# EAGLE library part J-20- (library con-headers-jp)
HEADER JACK PINS
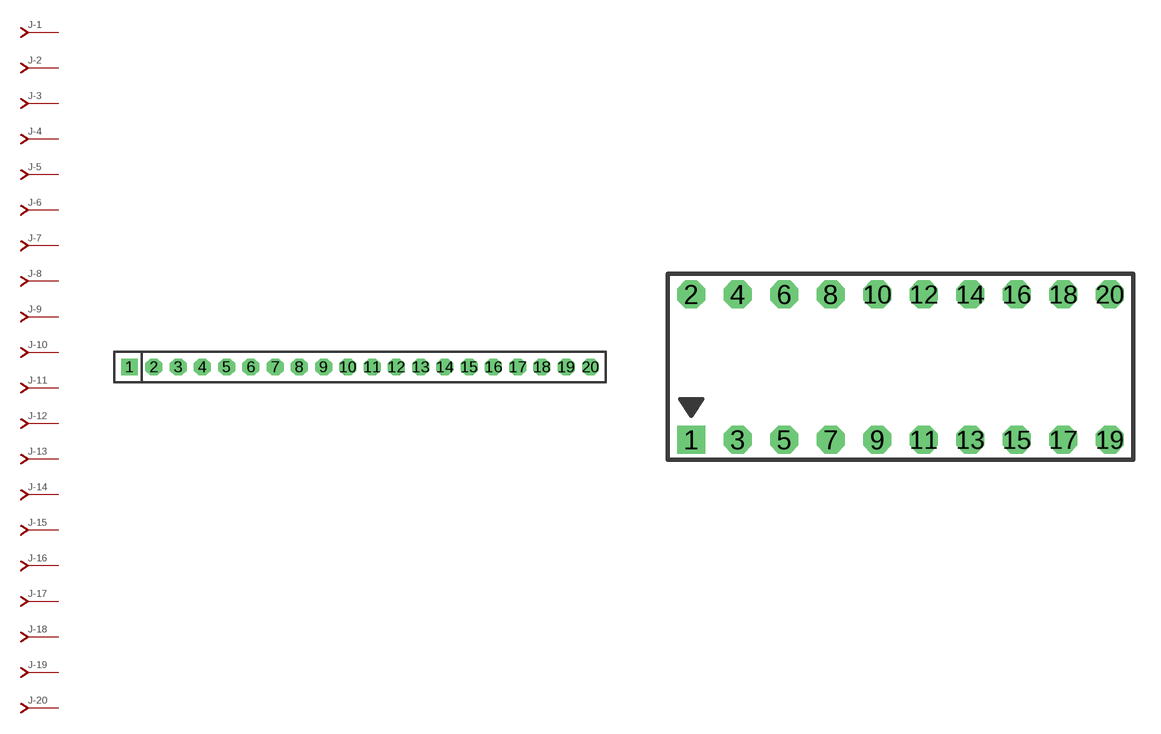
[diagram p7: symbol with the pads of SIP-100-20; footprints SIP-100-20, 535512-20]

Designator prefix J; gates -1=J-N -2=J-N -3=J-N -4=J-N -5=J-N -6=J-N -7=J-N -8=J-N -9=J-N -10=J-N -11=J-N -12=J-N -13=J-N -14=J-N -15=J-N -16=J-N -17=J-N -18=J-N -19=J-N -20=J-N

## J-20-SIP-100  [SIP-100-20]
1  -1:J  pas
2  -2:J  pas
3  -3:J  pas
4  -4:J  pas
5  -5:J  pas
6  -6:J  pas
7  -7:J  pas
8  -8:J  pas
9  -9:J  pas
10  -10:J  pas
11  -11:J  pas
12  -12:J  pas
13  -13:J  pas
14  -14:J  pas
15  -15:J  pas
16  -16:J  pas
17  -17:J  pas
18  -18:J  pas
19  -19:J  pas
20  -20:J  pas

## J-20-535512  [535512-20]
Pads as for SIP-100-20

## J-20-79107  [79107-20]
Pads as for SIP-100-20

## J-20-79109  [79109-20]
Pads as for SIP-100-20

## J-20-87264  [87264-20]
Pads as for SIP-100-20

## J-20-87340  [87340-20]
Pads as for SIP-100-20

## J-20-87368  [87368-20]
Pads as for SIP-100-20

## J-20-100-2X10  [HDR-100-2X10]
Pads as for SIP-100-20

## J-20-100-2X10_M  [HDR-100-2X10_M]
Pads as for SIP-100-20

## J-20-2MM-2X10  [HDR-2MM-2X10]
Pads as for SIP-100-20

## J-20-2MM-2X10_M  [HDR-2MM-2X10_M]
Pads as for SIP-100-20

## Footprint SIP-100-20 (pad centres in mm)
SIP Header - 0.1"
drill 0.914 pad 1.778 square: 1 -24.13,0
drill 0.914 pad 1.778 octagon: 2 -21.59,0; 3 -19.05,0; 4 -16.51,0; 5 -13.97,0; 6 -11.43,0; 7 -8.89,0; 8 -6.35,0; 9 -3.81,0; 10 -1.27,0; 11 1.27,0; 12 3.81,0; 13 6.35,0; 14 8.89,0; 15 11.43,0; 16 13.97,0; 17 16.51,0; 18 19.05,0; 19 21.59,0; 20 24.13,0

## Footprint 535512-20 (pad centres in mm)
AMPMODU - 535512 Series
drill 1.016 square: 1 -11.43,0
drill 1.016 octagon: 2 -11.43,7.938; 3 -8.89,0; 4 -8.89,7.938; 5 -6.35,0; 6 -6.35,7.938; 7 -3.81,0; 8 -3.81,7.938; 9 -1.27,0; 10 -1.27,7.938; 11 1.27,0; 12 1.27,7.938; 13 3.81,0; 14 3.81,7.938; 15 6.35,0; 16 6.35,7.938; 17 8.89,0; 18 8.89,7.938; 19 11.43,0; 20 11.43,7.938

## Footprint 79107-20 (pad centres in mm)
Molex Board-To-Board Receptacal 2.00mm (.079") Pitch Milli-Grid Header, Vertical, Through-Hole Mates with: 87759, 87762, 87758, 87760
drill 0.914 square: 1 -9,-1
drill 0.914 round: 2 -9,1; 3 -7,-1; 4 -7,1; 5 -5,-1; 6 -5,1; 7 -3,-1; 8 -3,1; 9 -1,-1; 10 -1,1; 11 1,-1; 12 1,1; 13 3,-1; 14 3,1; 15 5,-1; 16 5,1; 17 7,-1; 18 7,1; 19 9,-1; 20 9,1

## Footprint 79109-20 (pad centres in mm)
Molex Board-to-Board Receptacal 2.00mm (.079") Pitch Milli-Grid Header, Vertical, Top/Bottom Entry Mates with: 87758, 87759, 87760, 87831, 87832, 87833
smd 1.12 x 1.83: 1 -9,-2.65; 2 -9,2.65; 3 -7,-2.65; 4 -7,2.65; 5 -5,-2.65; 6 -5,2.65; 7 -3,-2.65; 8 -3,2.65; 9 -1,-2.65; 10 -1,2.65; 11 1,-2.65; 12 1,2.65; 13 3,-2.65; 14 3,2.65; 15 5,-2.65; 16 5,2.65; 17 7,-2.65; 18 7,2.65; 19 9,-2.65; 20 9,2.65
hole 0.914 at -8,0
hole 0.914 at -9,1
hole 0.914 at -9,-1
hole 0.914 at -7,-1
hole 0.914 at -7,1
hole 0.914 at -5,-1
hole 0.914 at -5,1
hole 0.914 at 8,0
hole 0.914 at -3,1
hole 0.914 at -3,-1
hole 0.914 at -1,1
hole 0.914 at -1,-1
hole 0.914 at 1,1
hole 0.914 at 1,-1
hole 0.914 at 3,1
hole 0.914 at 3,-1
hole 0.914 at 5,-1
hole 0.914 at 5,1
hole 0.914 at 7,1
hole 0.914 at 7,-1
hole 0.914 at 9,1
hole 0.914 at 9,-1

## Footprint 87264-20 (pad centres in mm)
Molex Board-To-Board Receptacal 2.00mm (.079") Pitch Milli-Grid Header, Side Entry Mates with 2mm(.079") Mill-Grid Header
drill 0.914 square: 1 -9,-2.25
drill 0.914 round: 2 -9,2.25; 3 -7,-2.25; 4 -7,2.25; 5 -5,-2.25; 6 -5,2.25; 7 -3,-2.25; 8 -3,2.25; 9 -1,-2.25; 10 -1,2.25; 11 1,-2.25; 12 1,2.25; 13 3,-2.25; 14 3,2.25; 15 5,-2.25; 16 5,2.25; 17 7,-2.25; 18 7,2.25; 19 9,-2.25; 20 9,2.25

## Footprint 87340-20 (pad centres in mm)
Molex Board-To-Board Receptacal 2.00mm (.079") Pitch Milli-Grid Header, Vertical, Top/Bottom Entry Mates with: 87758, 87759, 87760, 87831, 87832, 87833
smd 1 x 1.75: 1 -9,-2.5; 2 -9,2.5; 3 -7,-2.5; 4 -7,2.5; 5 -5,-2.5; 6 -5,2.5; 7 -3,-2.5; 8 -3,2.5; 9 -1,2.5; 10 -1,-2.5; 11 1,-2.5; 12 1,2.5; 13 3,2.5; 14 3,-2.5; 15 5,-2.5; 16 5,2.5; 17 7,-2.5; 18 7,2.5; 19 9,-2.5; 20 9,2.5
hole 0.914 at -10,0
hole 0.914 at -9,1
hole 0.914 at -9,-1
hole 0.914 at -7,-1
hole 0.914 at -7,1
hole 0.914 at 10,0
hole 0.914 at -5,1
hole 0.914 at -5,-1
hole 0.914 at -3,1
hole 0.914 at -3,-1
hole 0.914 at -1,-1
hole 0.914 at -1,1
hole 0.914 at 1,1
hole 0.914 at 1,-1
hole 0.914 at 3,1
hole 0.914 at 3,-1
hole 0.914 at 5,1
hole 0.914 at 5,-1
hole 0.914 at 7,1
hole 0.914 at 7,-1
hole 0.914 at 9,1
hole 0.914 at 9,-1

## Footprint 87368-20 (pad centres in mm)
Molex Board-To-Board Receptacal 2.00mm (.079") Pitch Milli-Grid Header, Side Entry SMD Mates with 2mm(.079") Mill-Grid Header
smd 1 x 2.8: 1 -9,-3.1; 2 -9,3.1; 3 -7,-3.1; 4 -7,3.1; 5 -5,-3.1; 6 -5,3.1; 7 -3,-3.1; 8 -3,3.1; 9 -1,-3.1; 10 -1,3.1; 11 1,-3.1; 12 1,3.1; 13 3,-3.1; 14 3,3.1; 15 5,-3.1; 16 5,3.1; 17 7,-3.1; 18 7,3.1; 19 9,-3.1; 20 9,3.1
hole 0.914 at -9,0
hole 0.914 at 0,0

## Footprint HDR-100-2X10 (pad centres in mm)
PIN HEADER - 0.1"
drill 1.016 square: 1 -11.43,-1.27
drill 1.016 octagon: 2 -11.43,1.27; 3 -8.89,-1.27; 4 -8.89,1.27; 5 -6.35,-1.27; 6 -6.35,1.27; 7 -3.81,-1.27; 8 -3.81,1.27; 9 -1.27,-1.27; 10 -1.27,1.27; 11 1.27,-1.27; 12 1.27,1.27; 13 3.81,-1.27; 14 3.81,1.27; 15 6.35,-1.27; 16 6.35,1.27; 17 8.89,-1.27; 18 8.89,1.27; 19 11.43,-1.27; 20 11.43,1.27

## Footprint HDR-100-2X10_M (pad centres in mm)
PIN HEADER - 0.1" - MIRRORED
drill 1.016 square: 1 -11.43,1.27
drill 1.016 octagon: 2 -11.43,-1.27; 3 -8.89,1.27; 4 -8.89,-1.27; 5 -6.35,1.27; 6 -6.35,-1.27; 7 -3.81,1.27; 8 -3.81,-1.27; 9 -1.27,1.27; 10 -1.27,-1.27; 11 1.27,1.27; 12 1.27,-1.27; 13 3.81,1.27; 14 3.81,-1.27; 15 6.35,1.27; 16 6.35,-1.27; 17 8.89,1.27; 18 8.89,-1.27; 19 11.43,1.27; 20 11.43,-1.27

## Footprint HDR-2MM-2X10 (pad centres in mm)
PIN HEADER - 2MM"
drill 0.914 square: 1 -9,-1
drill 0.914 round: 2 -9,1; 3 -7,-1; 4 -7,1; 5 -5,-1; 6 -5,1; 7 -3,-1; 8 -3,1; 9 -1,-1; 10 -1,1; 11 1,-1; 12 1,1; 13 3,-1; 14 3,1; 15 5,-1; 16 5,1; 17 7,-1; 18 7,1; 19 9,-1; 20 9,1

## Footprint HDR-2MM-2X10_M (pad centres in mm)
PIN HEADER - 2MM - MIRRORED
drill 0.914 square: 1 -9,1
drill 0.914 round: 2 -9,-1; 3 -7,1; 4 -7,-1; 5 -5,1; 6 -5,-1; 7 -3,1; 8 -3,-1; 9 -1,1; 10 -1,-1; 11 1,1; 12 1,-1; 13 3,1; 14 3,-1; 15 5,1; 16 5,-1; 17 7,1; 18 7,-1; 19 9,1; 20 9,-1